# Altium schematic symbol library ARCOM_Voltage_reg.SchLib: 39 symbols
Pins are listed as number, name and electrical type; pins without a type are passive.

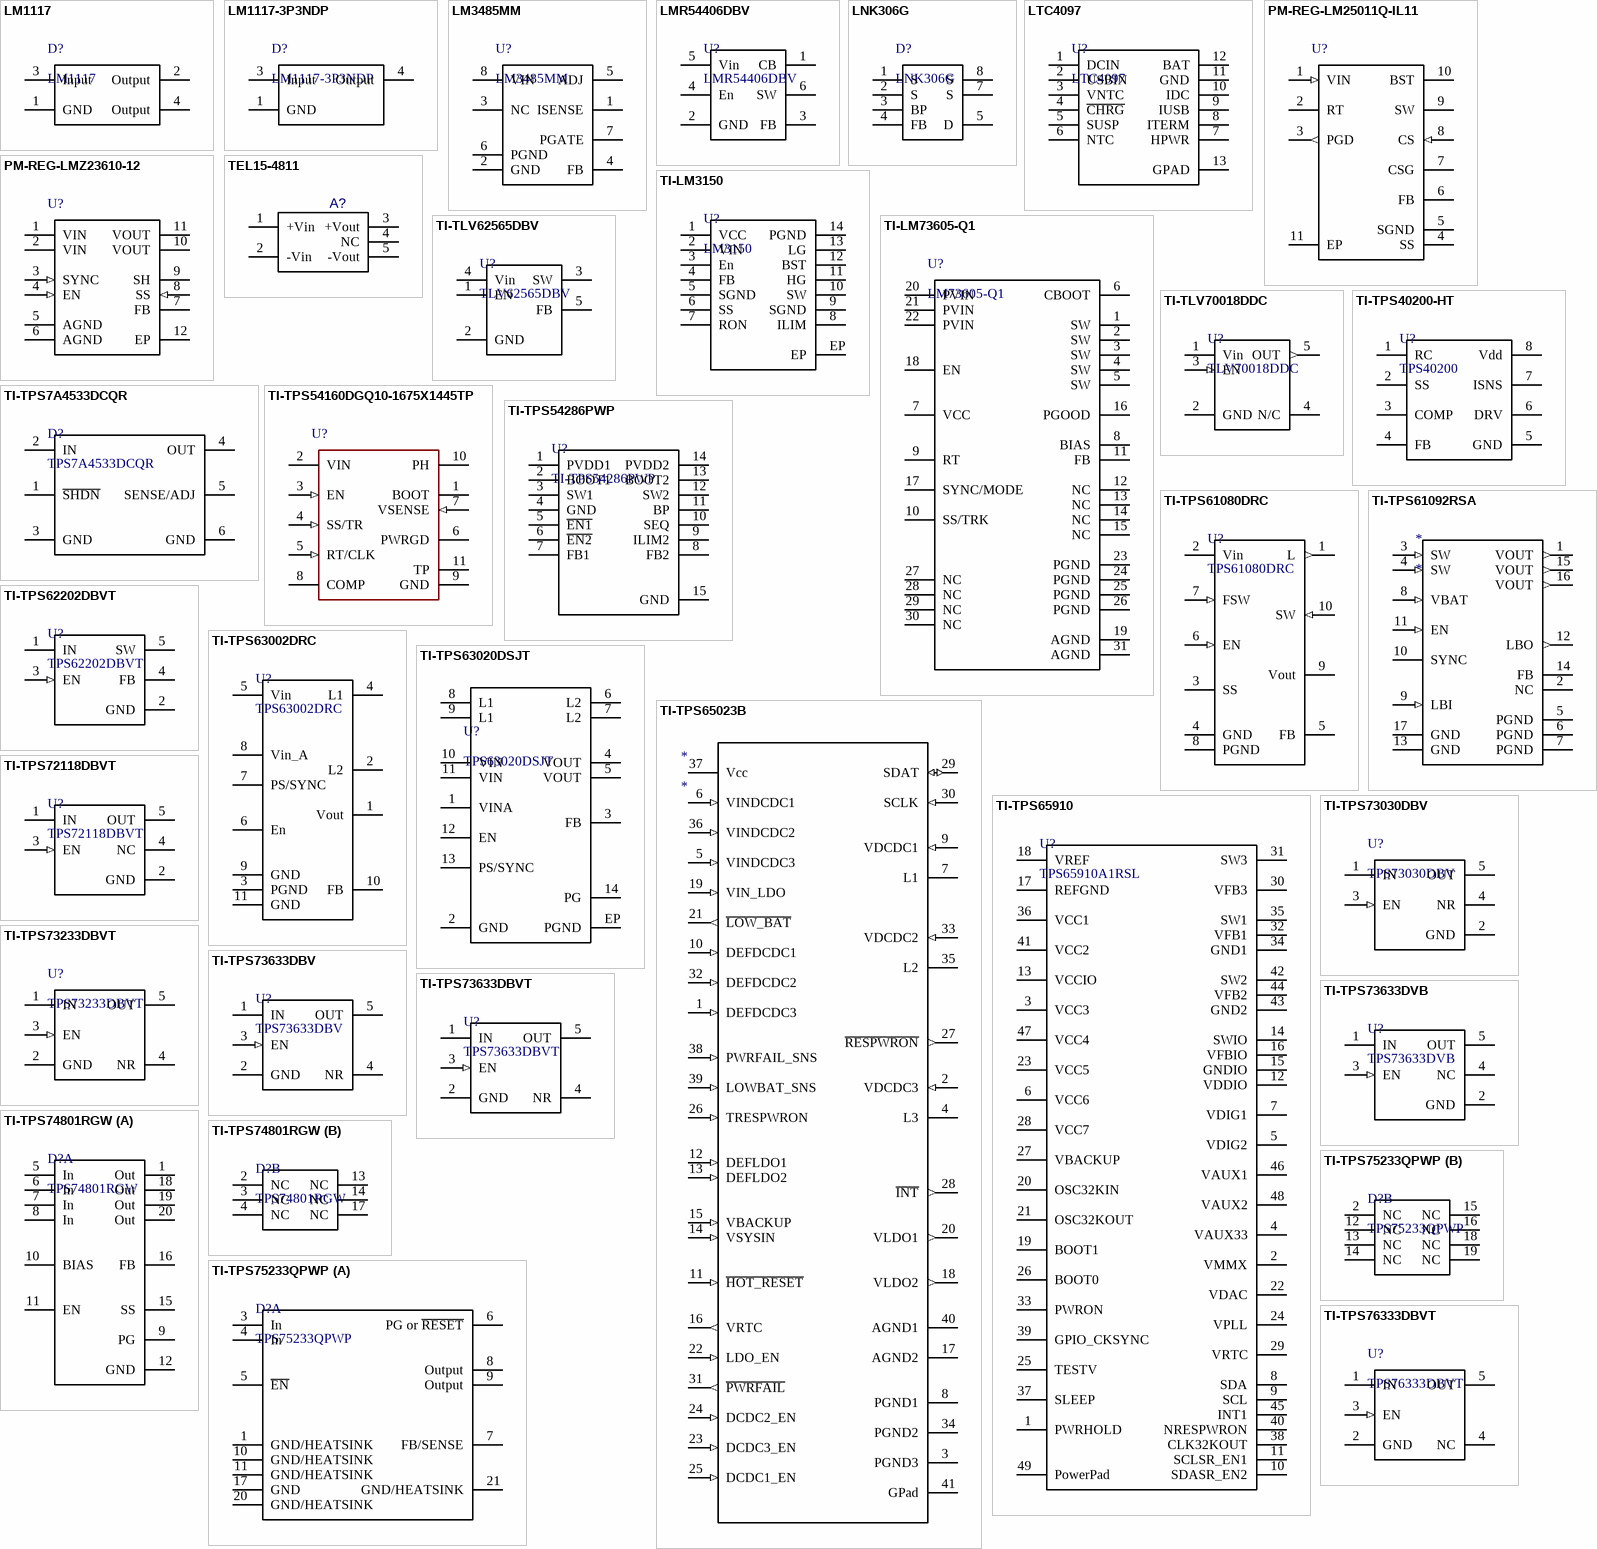
[diagram p0: symbols LM1117 to TI-TPS76333DBVT]

## LM1117
designator D?
800-mA Low-Dropout Linear Regulator; Manufacturer: Texas Instruments; Manufacturer P/N: LM1117-3P3NDP; ComponentLink1Description: Manufacturer; ComponentLink1URL: *; ComponentLink2Description: Datasheet; ComponentLink2URL: *; Family: Chip; Part: LM1117-3P3NDP
footprint SOT-223-2 (SOT-223/SC-73; 4 Leads; Body 6.7 x 7.3 mm, inc. leads (LxW max))
pins: 1 GND, 2 Output, 3 Input, 4 Output

## LM1117-3P3NDP
designator D?
800-mA Low-Dropout Linear Regulator; Manufacturer: Texas Instruments; ComponentLink1Description: Manufacturer; ComponentLink1URL: *; ComponentLink2Description: Datasheet; ComponentLink2URL: *; Family: Chip; Manufacturer P/N: LM1117-3P3NDP; Part: LM1117-3P3NDP
footprint TO-252-3
pins: 1 GND, 3 Input, 4 Output

## LM3485MM
designator U?
Hysteretic PFET Buck Controller; Manufacturer: Texas Instruments; ComponentLink1Description: Manufacturer; ComponentLink1URL: *; ComponentLink2Description: Datasheet; ComponentLink2URL: *; Manufacturer P/N: LM3485MM; Family: Chip; Part: LM3485MM
footprint VSSOP8
pins: 1 ISENSE, 2 GND, 3 NC, 4 FB, 5 ADJ, 6 PGND, 7 PGATE, 8 VIN

## LMR54406DBV
designator U?
LMR544xx SIMPLE SWITCHER® 4-V to 45-V, 0.6-A/1-A Buck Converter in a SOT-23 Package; Manufacturer: Texas Instruments; Manufacturer p/n: LMR54406DBV; Family: Chip; Part: LMR54406DBV
footprint SOT-23(PIC)
pins: 1 CB, 2 GND, 3 FB, 4 En, 5 Vin, 6 SW

## LNK306G
designator D?
Energy Efficient Off-Line Switcher IC
footprint SMD-8B
pins: 1 S, 2 S, 3 BP, 4 FB, 5 D, 7 S, 8 S

## LTC4097
designator U?
USB/Wall Adapter Standalone Li-Ion/Polimer Battery Charger; ComponentLink1Description: *; ComponentLink1URL: *; ComponentLink2Description: *; ComponentLink2URL: *; Family: *; Manufacturer: *; Manufacturer P/N: *; Part: *
pins: 1 DCIN, 2 USBIN, 3 VNTC, 4 ~{CHRG}, 5 SUSP, 6 NTC, 7 HPWR, 8 ITERM, 9 IUSB, 10 IDC, 11 GND, 12 BAT, 13 GPAD

## PM-REG-LM25011Q-IL11
designator U?
footprint DGQ0010A_N (TSOP, 10-Leads, Body 3.1x3.1mm, Pitch 0.5mm, Thermal Pad 1.9x1.73mm, IPC Medium Density)
pins: 1 VIN (in), 2 RT, 3 PGD (out), 4 SS, 5 SGND (power), 6 FB, 7 CSG (oe), 8 CS (in), 9 SW, 10 BST, 11 EP (power)

## PM-REG-LMZ23610-12
designator U?
footprint NDY0011A_M (DPAK, 11-Leads, Body 15.25x15.25mm, Pitch 1.27mm, IPC Low Density)
pins: 1 VIN (power), 2 VIN (power), 3 SYNC (in), 4 EN (in), 5 AGND (power), 6 AGND (power), 7 FB, 8 SS (in), 9 SH, 10 VOUT (power), 11 VOUT (power), 12 EP (power)

## TEL15-4811
designator A?  (value not drawn)
15W DC-DC Converter; Manufacturer: TRACO Power; Manufacturer P/N: TEL15-4811; ComponentLink1Description: Manufacturer; ComponentLink1URL: https://www.tracopower.com/home/; ComponentLink2Description: Datasheet; ComponentLink2URL: https://www2.mouser.com/datasheet/2/687/tel15-519363.pdf; Family: Chip
footprint TEL15-4811
pins: 1 +Vin, 2 -Vin, 3 +Vout, 4 NC, 5 -Vout

## TI-LM3150
designator U?, comment LM3150
LM3150 Wide-VIN Synchronous Buck Controller; ComponentLink1Description: *; ComponentLink1URL: *; ComponentLink2Description: *; ComponentLink2URL: *; family: *; Manufacturer: *; Manufacturer P/N: *; Part: *
footprint HTSSOP(14)
pins: 1 VCC, 2 VIN, 3 En, 4 FB, 5 SGND, 6 SS, 7 RON, 8 ILIM, 9 SGND, 10 SW, 11 HG, 12 BST, 13 LG, 14 PGND, EP

## TI-LM73605-Q1
designator U?, comment LM73605-Q1
3.5-V to 36-V, 5-A Synchronous Step-Down Voltage Converter; Manufacturer: Texas Instruments; ComponentLink1Description: *; ComponentLink1URL: *; ComponentLink2Description: *; ComponentLink2URL: *; Family: Chip; Manufacturer P/N: LM73605-Q1; Part: LM73605-Q1
footprint WQFN-30
pins: 1 SW, 2 SW, 3 SW, 4 SW, 5 SW, 6 CBOOT, 7 VCC, 8 BIAS, 9 RT, 10 SS/TRK, 11 FB, 12 NC, 13 NC, 14 NC, 15 NC, 16 PGOOD, 17 SYNC/MODE, 18 EN, 19 AGND, 20 PVIN, 21 PVIN, 22 PVIN, 23 PGND, 24 PGND, 25 PGND, 26 PGND, 27 NC, 28 NC, 29 NC, 30 NC, 31 AGND

## TI-TLV62565DBV
designator U?, comment TLV62565DBV
TLV6256x 1.5-A High Efficiency Step-Down Converters in SOT-23 5-Pin Package; Manufacturer: Texas Instruments; ComponentLink1Description: *; ComponentLink1URL: *; ComponentLink2Description: *; ComponentLink2URL: *; Family: Chip; Manufacturer P/N: TLV62565DBV; Part: TLV62565DBV
footprint SOT23-6
pins: 1 EN, 2 GND, 3 SW, 4 Vin, 5 FB

## TI-TLV70018DDC
designator U?, comment TLV70018DDC
TLV700 200-mA, Low-IQ, Low-Dropout Regulator for Portable Devices; Manufacturer: Texas Instruments; ComponentLink1Description: *; ComponentLink1URL: *; ComponentLink2Description: *; ComponentLink2URL: *; Family: Chip; Manufacturer P/N: TLV700; Part: TLV70018DDC
footprint SOT23-6
pins: 1 Vin, 2 GND, 3 EN (in), 4 N/C, 5 OUT (out)

## TI-TPS7A4533DCQR
designator D?, comment TPS7A4533DCQR
Low-Noise Fast-Transient-Response 1.5-A Low-Dropout Voltage Regulator; ComponentLink1Description: *; ComponentLink1URL: *; ComponentLink2Description: Datasheet; ComponentLink2URL: http://www.ti.com/lit/ds/symlink/tps7a4533.pdf; Family: *; Manufacturer: *; Manufacturer P/N: *; Part: *
footprint TI-DCQ6_L (SOT223, 6-Leads, Body 6.5x3.5mm, Pitch 1.27mm, IPC High Density)
footprint TI-DCQ6_M (SOT223, 6-Leads, Body 6.5x3.5mm, Pitch 1.27mm, IPC Low Density)
footprint TI-DCQ6_N (SOT223, 6-Leads, Body 6.5x3.5mm, Pitch 1.27mm, IPC Medium Density)
pins: 1 ~{SHDN}, 2 IN, 3 GND, 4 OUT, 5 SENSE/ADJ, 6 GND

## TI-TPS40200-HT
designator U?, comment TPS40200
Wide-input-range nonsynchronous voltage-mode controller; ComponentLink1Description: *; ComponentLink1URL: *; ComponentLink2Description: *; ComponentLink2URL: *; Manufacturer: *; Manufacturer P/N: *; Family: *; Part: *
footprint SOIC_8_1.27_L (SOIC, 8-Leads, Body 4.89x3.9mm, Pitch 1.27mm, IPC High Density)
footprint SOIC_8_1.27_M (SOIC, 8-Leads, Body 4.89x3.9mm, Pitch 1.27mm, IPC Low Density)
footprint SOIC_8_1.27_N (SOIC, 8-Leads, Body 4.89x3.9mm, Pitch 1.27mm, IPC Medium Density)
pins: 1 RC, 2 SS, 3 COMP, 4 FB, 5 GND, 6 DRV, 7 ISNS, 8 Vdd

## TI-TPS54160DGQ10-1675X1445TP
designator U?
ComponentLink1Description: Manufacturer; ComponentLink1URL: *; ComponentLink2URL: *; Manufacturer P/N: *; Family: *; Part: *
footprint DGQ0010D_M (TSOP, 10-Leads, Body 3.1x3.1mm, Pitch 0.5mm, Thermal Pad 1.88x1.57mm, IPC Low Density)
pins: 1 BOOT "A bootstrap capacitor is required between BOOT and PH. If the voltage on this capacitor is below the minimum required by the output device, the output is forced to switch off until the capacitor is refreshed.", 2 VIN (power) "Input supply voltage, 3.5 V to 60 V.", 3 EN (in) "Enable pin, internal pull-up current source. Pull below 1.2V to disable. Float to enable. Adjust the input undervoltage lockout with two resistors.", 4 SS/TR (in) "Slow-start and Tracking. An external capacitor connected to this pin sets the output rise time. Since the voltage on this pin overrides the internal reference, it can be used for tracking and sequencing.", 5 RT/CLK (in) "Resistor Timing and External Clock. An internal amplifier holds this pin at a fixed voltage when using an external resistor to ground to set the switching frequency. If the pin is pulled above the PLL upper threshold, a mode (See Datasheet)", 6 PWRGD (oc) "An open drain output, asserts low if output voltage is low due to thermal shutdown, dropout, over-voltage or EN shut down.", 7 VSENSE (in) "Inverting node of the transconductance ( gm) error amplifier.", 8 COMP "Error amplifier output, and input to the output switch current comparator. Connect frequency compensation components to this pin.", 9 GND (power) "Ground pin. Power ground return for switching circuit. Connect sensitive SS and VFB returns to GND at a single point.", 10 PH (power) "The source of the internal high-side power MOSFET.", 11 TP (power) "GND pin must be electrically connected to the exposed pad on the printed circuit board for proper operation."

## TI-TPS54286PWP
designator U?
2-A DUAL NON-SYNCHRONOUS CONVERTER WITH INTEGRATED HIGH-SIDE MOSFET; Family: Chip
footprint R-PDSO-G14
pins: 1 PVDD1, 2 BOOT1, 3 SW1, 4 GND, 5 ~{EN1}, 6 ~{EN2}, 7 FB1, 8 FB2, 9 ILIM2, 10 SEQ, 11 BP, 12 SW2, 13 BOOT2, 14 PVDD2, 15 GND

## TI-TPS61080DRC
designator U?, comment TPS61080DRC
High-Voltage DC-DC Boost Converter with 0.5-A, 1.3-A Integrated Switch; Manufacturer: Texas Instruments; ComponentLink1Description: Manufacturer; ComponentLink1URL: http://www.ti.com; ComponentLink2Description: Datasheet; ComponentLink2URL: https://www.ti.com/lit/ds/symlink/tps61080.pdf; Manufacturer P/N: TPS61080DRC; Part: TPS61080DRC; Family: Chip
footprint VSON-10pin
pins: 1 L (out) "No connected", 2 Vin (power) "Input supply voltage", 3 SS "Input supply voltage", 4 GND "Input supply voltage", 5 FB (power) "Ground", 6 EN (in) "Input supply voltage", 7 FSW (in) "Input supply voltage", 8 PGND "Input supply voltage", 9 Vout (power) "Ground", 10 SW (in) "No connected"

## TI-TPS61092RSA
designator *
TPS65910xIntegratedPower-ManagementUnitTopSpecification; Manufacturer: Texas Instruments; Manufacturer p/n: TPS61092RSA; Part: TPS61092RSA; Family: chip
footprint PVQFN-N16
pins: 1 VOUT (out) "Input supply voltage", 2 NC "Input supply voltage", 3 SW (in) "Input supply voltage", 4 SW (in) "Input supply voltage", 5 PGND "Input supply voltage", 6 PGND "Input supply voltage", 7 PGND "Input supply voltage", 8 VBAT (in) "Input supply voltage", 9 LBI (in) "Input supply voltage", 10 SYNC "Input supply voltage", 11 EN (in) "Input supply voltage", 12 LBO (out) "Input supply voltage", 13 GND "Input supply voltage", 14 FB "Input supply voltage", 15 VOUT (out) "Input supply voltage", 16 VOUT (out) "Input supply voltage", 17 GND "Input supply voltage"

## TI-TPS62202DBVT
designator U?, comment TPS62202DBVT
High-Efficiency Step-Down DC-DC converter; Manufacturer: Texas Instruments; ComponentLink1Description: Manufacturer; ComponentLink1URL: http://www.ti.com; ComponentLink2Description: Datasheet; Manufacturer P/N: TPS62202DBVT; Part: TPS62202DBVT; Family: Chip
footprint SOT23_MF05A_L (SOT23, 5-Leads, Body 2.9x1.6mm, Pitch 0.95mm, Lead Span 2.8mm, IPC High Density)
footprint SOT23_MF05A_M (SOT23, 5-Leads, Body 2.9x1.6mm, Pitch 0.95mm, Lead Span 2.8mm, IPC Low Density)
footprint SOT23_MF05A_N (SOT23, 5-Leads, Body 2.9x1.6mm, Pitch 0.95mm, Lead Span 2.8mm, IPC Medium Density)
pins: 1 IN (power) "Input supply voltage", 2 GND (power) "Ground", 3 EN (in) "Enable input", 4 FB "No connected", 5 SW (power) "Regulated output voltage"

## TI-TPS63002DRC
designator U?, comment TPS63002DRC
TPS6300x High-Efficient Single Inductor Buck-Boost Converter With 1.8-A Switches; Manufacturer: Texas Instruments; ComponentLink1Description: Manufacturer; ComponentLink1URL: http://www.ti.com; ComponentLink2Description: Datasheet; Manufacturer P/N: TPS63002DRC; Part: TPS63002DRC; Family: Chip
footprint VSON-10pin - TPS63002
pins: 1 Vout (power) "Input supply voltage", 2 L2 (power) "Input supply voltage", 3 PGND "Input supply voltage", 4 L1 (power) "Input supply voltage", 5 Vin (power) "Input supply voltage", 6 En (power) "Input supply voltage", 7 PS/SYNC (power) "Input supply voltage", 8 Vin_A (power) "Input supply voltage", 9 GND "Input supply voltage", 10 FB (power) "Input supply voltage", 11 GND "Input supply voltage"

## TI-TPS63020DSJT
designator U?, comment TPS63020DSJT
Ultralow quiescent current 250ma low dropout voltage regulator; Manufacturer: Texas Instruments; ComponentLink1Description: *; ComponentLink1URL: *; ComponentLink2Description: *; ComponentLink2URL: *; Family: Chips; Manufacturer p/n: TPS63020DSJT; Part: TPS63020DSJT
footprint R-PVSON-N14
pins: 1 VINA (power) "Regulator ground", 2 GND (power) "Regulator ground", 3 FB (hiz) "PG output", 4 VOUT (power) "Regulated output voltage", 5 VOUT (power) "Regulated output voltage", 6 L2 (hiz) "PG output", 7 L2 (hiz) "PG output", 8 L1 (hiz) "PG output", 9 L1 (hiz) "PG output", 10 VIN (power) "Input voltage", 11 VIN (power) "Input voltage", 12 EN (power) "Regulator ground", 13 PS/SYNC (power) "Regulator ground", 14 PG (power) "Regulator ground", EP PGND "No connect"

## TI-TPS65023B
designator *
TPS65023B; Manufacturer: Texas Instruments; Manufacturer p/n: TPS61092RSA; Part: TPS61092RSA; Family: chip
footprint S-PWQFN-N40
pins: 1 DEFDCDC3 (in), 2 VDCDC3 (in), 3 PGND3 (power), 4 L3, 5 VINDCDC3 (in), 6 VINDCDC1 (in), 7 L1, 8 PGND1 (power), 9 VDCDC1 (in), 10 DEFDCDC1 (in), 11 ~{HOT_RESET} (in), 12 DEFLDO1 (in), 13 DEFLDO2 (in), 14 VSYSIN (in), 15 VBACKUP (in), 16 VRTC (out), 17 AGND2 (power), 18 VLDO2 (out), 19 VIN_LDO (in), 20 VLDO1 (out), 21 ~{LOW_BAT} (out), 22 LDO_EN (in), 23 DCDC3_EN (in), 24 DCDC2_EN (in), 25 DCDC1_EN (in), 26 TRESPWRON (in), 27 ~{RESPWRON} (out), 28 ~{INT} (out), 29 SDAT (io), 30 SCLK (in), 31 ~{PWRFAIL} (out), 32 DEFDCDC2 (in), 33 VDCDC2 (in), 34 PGND2 (power), 35 L2, 36 VINDCDC2 (in), 37 Vcc (power), 38 PWRFAIL_SNS (in), 39 LOWBAT_SNS (in), 40 AGND1 (power), 41 GPad (power)

## TI-TPS65910
designator U?, comment TPS65910A1RSL
Integrated Power-Managerment Unit, 48-pin QFN, -40 to 85 degC, Green (RoHS & no Sb/Br); Manufacturer: Texas Instruments; ComponentLink1Description: Manufacturer; ComponentLink1URL: http://www.ti.com; ComponentLink2Description: Datasheet; ComponentLink2URL: https://www.ti.com/lit/gpn/tps65910; Manufacturer P/N: TPS65910A1RSL; Part: TPS65910A1RSL; Family: Chip
footprint IC_TPS65910A31A1RSLR
pins: 1 PWRHOLD (power) "Input supply voltage", 2 VMMX "No connected", 3 VCC3 (power) "Input supply voltage", 4 VAUX33 "No connected", 5 VDIG2 "No connected", 6 VCC6 (power) "Input supply voltage", 7 VDIG1 "No connected", 8 SDA "No connected", 9 SCL "No connected", 10 SDASR_EN2 "No connected", 11 SCLSR_EN1 "No connected", 12 VDDIO "No connected", 13 VCCIO (power) "Input supply voltage", 14 SWIO "No connected", 15 GNDIO "No connected", 16 VFBIO "No connected", 17 REFGND (power) "Input supply voltage", 18 VREF (power) "Input supply voltage", 19 BOOT1 (power) "Input supply voltage", 20 OSC32KIN (power) "Input supply voltage", 21 OSC32KOUT (power) "Input supply voltage", 22 VDAC "No connected", 23 VCC5 (power) "Input supply voltage", 24 VPLL "No connected", 25 TESTV (power) "Input supply voltage", 26 BOOT0 (power) "Input supply voltage", 27 VBACKUP (power) "Input supply voltage", 28 VCC7 (power) "Input supply voltage", 29 VRTC "No connected", 30 VFB3 "No connected", 31 SW3 (power) "Regulated output voltage", 32 VFB1 "No connected", 33 PWRON (power) "Input supply voltage", 34 GND1 "No connected", 35 SW1 "No connected", 36 VCC1 (power) "Input supply voltage", 37 SLEEP (power) "Input supply voltage", 38 CLK32KOUT "No connected", 39 GPIO_CKSYNC (power) "Input supply voltage", 40 NRESPWRON "No connected", 41 VCC2 (power) "Input supply voltage", 42 SW2 "No connected", 43 GND2 "No connected", 44 VFB2 "No connected", 45 INT1 "No connected", 46 VAUX1 "No connected", 47 VCC4 (power) "Input supply voltage", 48 VAUX2 "No connected", 49 PowerPad (power) "Input supply voltage"

## TI-TPS72118DBVT
designator U?, comment TPS72118DBVT
Single Output Low Input Voltage Requirement LDO, 150 mA, Fixed 1.8 V Output, 1.8 to 5.5 V Input, with Low IQ, 5-pin SOT-23 (DBV), -40 to 125 degC; Manufacturer: Texas Instruments; ComponentLink1Description: Manufacturer; ComponentLink1URL: http://www.ti.com; ComponentLink2Description: Datasheet; ComponentLink2URL: http://www.ti.com/lit/ds/symlink/tps72118.pdf; Manufacturer P/N: TPS72118DBVT; Part: TPS72118DBVT; Family: Chip
footprint SOT23_MF05A_L (SOT23, 5-Leads, Body 2.9x1.6mm, Pitch 0.95mm, Lead Span 2.8mm, IPC High Density)
footprint SOT23_MF05A_M (SOT23, 5-Leads, Body 2.9x1.6mm, Pitch 0.95mm, Lead Span 2.8mm, IPC Low Density)
footprint SOT23_MF05A_N (SOT23, 5-Leads, Body 2.9x1.6mm, Pitch 0.95mm, Lead Span 2.8mm, IPC Medium Density)
pins: 1 IN (power) "Input supply voltage", 2 GND (power) "Ground", 3 EN (in) "Enable input", 4 NC "No connected", 5 OUT (power) "Regulated output voltage"

## TI-TPS73030DBV
designator U?, comment TPS73030DBV
Single Output High PSRR LDO, 200 mA, Fixed 3 V Output, 2.7 to 5.5 V Input, 5-pin SOT-23 (DBV), -40 to 85 degC; Manufacturer: Texas Instruments; Manufacturer P/N: TPS73030DBVT; ComponentLink1Description: Manufacturer; ComponentLink1URL: http://www.ti.com; ComponentLink2Description: Datasheet; ComponentLink2URL: http://www.ti.com/lit/ds/symlink/tps730.pdf; Part: TPS73030DBV; Family: Chip
footprint SOT23_MF05A_L (SOT23, 5-Leads, Body 2.9x1.6mm, Pitch 0.95mm, Lead Span 2.8mm, IPC High Density)
footprint SOT23_MF05A_M (SOT23, 5-Leads, Body 2.9x1.6mm, Pitch 0.95mm, Lead Span 2.8mm, IPC Low Density)
footprint SOT23_MF05A_N (SOT23, 5-Leads, Body 2.9x1.6mm, Pitch 0.95mm, Lead Span 2.8mm, IPC Medium Density)
pins: 1 IN (power) "Input supply.", 2 GND (power) "Ground.", 3 EN (in) "Driving the enable pin (EN) high turns on the regulator .Driving this pin low puts the regulator into shutdown mode.EN can be connected to IN if not used.", 4 NR "Fixed voltage versions only; connecting an external capacitor to this pin bypasses noise generated by the internal bandgap. This capacitor allows output noise to be reduced to very low levels.", 5 OUT (power) "Output for the regulator. A small capacitor (total typical capacitance >= 2.0uF ceramic) is needed from this pin to ground to assure stability."

## TI-TPS73233DBVT
designator U?, comment TPS73233DBVT
Cap-Free, NMOS, 250mA Low Dropout Regulator  with Reverse Current Protection, Fixed 3.3V output, 5-pin SOT-23(DBV); Manufacturer: Texas Instruments; ComponentLink1Description: Manufacturer; ComponentLink1URL: http://www.ti.com; ComponentLink2Description: Datasheet; ComponentLink2URL: http://www.ti.com/lit/ds/symlink/tps732.pdf; Part: TPS73233DBVT; Manufacturer P/N: TPS73233DBVT; Family: Chip
footprint SOT23_MF05A_L (SOT23, 5-Leads, Body 2.9x1.6mm, Pitch 0.95mm, Lead Span 2.8mm, IPC High Density)
footprint SOT23_MF05A_M (SOT23, 5-Leads, Body 2.9x1.6mm, Pitch 0.95mm, Lead Span 2.8mm, IPC Low Density)
footprint SOT23_MF05A_N (SOT23, 5-Leads, Body 2.9x1.6mm, Pitch 0.95mm, Lead Span 2.8mm, IPC Medium Density)
pins: 1 IN (power) "Input supply voltage", 2 GND (power) "Ground", 3 EN (in) "Enable input", 4 NR "No connected", 5 OUT (power) "Regulated output voltage"

## TI-TPS73633DBV
designator U?, comment TPS73633DBV
Single Output Low Noise LDO, 400 mA, Fixed 3.3 V Output, 1.7 to 5.5 V Input, with Reverse Current Protection, 5-pin SOT-23 (DBV), -40 to 85 degC, Green (RoHS & no Sb/Br); Manufacturer: Texas Instruments; Manufacturer P/N: TPS73633DBVT; ComponentLink1Description: Manufacturer; ComponentLink1URL: http://www.ti.com; ComponentLink2Description: Datasheet; ComponentLink2URL: http://www.ti.com/lit/ds/symlink/tps736.pdf; Part: TPS73633DBV; Family: Chip
footprint SOT23_MF05A_L (SOT23, 5-Leads, Body 2.9x1.6mm, Pitch 0.95mm, Lead Span 2.8mm, IPC High Density)
footprint SOT23_MF05A_M (SOT23, 5-Leads, Body 2.9x1.6mm, Pitch 0.95mm, Lead Span 2.8mm, IPC Low Density)
footprint SOT23_MF05A_N (SOT23, 5-Leads, Body 2.9x1.6mm, Pitch 0.95mm, Lead Span 2.8mm, IPC Medium Density)
pins: 1 IN (power) "Input supply voltage", 2 GND (power) "Ground", 3 EN (in) "Enable input", 4 NR "No connected", 5 OUT (power) "Regulated output voltage"

## TI-TPS73633DBVT
designator U?, comment TPS73633DBVT
Single Output Low Noise LDO, 400 mA, Fixed 3.3 V Output, 1.7 to 5.5 V Input, with Reverse Current Protection, 5-pin SOT-23 (DBV), -40 to 85 degC, Green (RoHS & no Sb/Br); Manufacturer: Texas Instruments; ComponentLink1Description: Manufacturer; ComponentLink1URL: http://www.ti.com; ComponentLink2Description: Datasheet; ComponentLink2URL: http://www.ti.com/lit/ds/symlink/tps736.pdf; Manufacturer P/N: TPS73633DBVT; Part: TPS73633DBVT; Family: Chip
footprint SOT23_MF05A_L (SOT23, 5-Leads, Body 2.9x1.6mm, Pitch 0.95mm, Lead Span 2.8mm, IPC High Density)
footprint SOT23_MF05A_M (SOT23, 5-Leads, Body 2.9x1.6mm, Pitch 0.95mm, Lead Span 2.8mm, IPC Low Density)
footprint SOT23_MF05A_N (SOT23, 5-Leads, Body 2.9x1.6mm, Pitch 0.95mm, Lead Span 2.8mm, IPC Medium Density)
pins: 1 IN (power) "Input supply voltage", 2 GND (power) "Ground", 3 EN (in) "Enable input", 4 NR "No connected", 5 OUT (power) "Regulated output voltage"

## TI-TPS73633DVB
designator U?, comment TPS73633DVB
Single Output Low Noise LDO, 400 mA, Fixed 3.3 V Output, 1.7 to 5.5 V Input, with Reverse Current Protection, 5-pin SOT-23 (DBV), -40 to 85 degC, Green (RoHS & no Sb/Br); Manufacturer: Texas Instruments; Manufacturer P/N: TPS73633DVBT; ComponentLink1Description: Manufacturer; ComponentLink1URL: http://www.ti.com; ComponentLink2Description: Datasheet; ComponentLink2URL: http://www.ti.com/lit/ds/symlink/tps736.pdf; Part: TPS73633DVB; Family: Chip
footprint SOT23_MF05A_L (SOT23, 5-Leads, Body 2.9x1.6mm, Pitch 0.95mm, Lead Span 2.8mm, IPC High Density)
footprint SOT23_MF05A_M (SOT23, 5-Leads, Body 2.9x1.6mm, Pitch 0.95mm, Lead Span 2.8mm, IPC Low Density)
footprint SOT23_MF05A_N (SOT23, 5-Leads, Body 2.9x1.6mm, Pitch 0.95mm, Lead Span 2.8mm, IPC Medium Density)
pins: 1 IN (power) "Input supply voltage", 2 GND (power) "Ground", 3 EN (in) "Enable input", 4 NC "No connected", 5 OUT (power) "Regulated output voltage"

## TI-TPS74801RGW
designator D?, comment TPS74801RGW
1.5-A Low-Dropout Linear Regulator With Programmable Soft-Start; ComponentLink1Description: *; ComponentLink1URL: *; ComponentLink2Description: Datasheet; ComponentLink2URL: http://www.ti.com/lit/ds/symlink/tps74801.pdf; Family: *; Manufacturer: *; Manufacturer P/N: *; Part: *
footprint RGW0020A_V (QFN, 20-Leads, Body 5x5mm, Pitch 0.65mm, Thermal Pad 3.15x3.15mm, TI Recommended)
part A pins: 1 Out, 5 In, 6 In, 7 In, 8 In, 9 PG, 10 BIAS, 11 EN, 12 GND, 15 SS, 16 FB, 18 Out, 19 Out, 20 Out
part B pins: 2 NC, 3 NC, 4 NC, 13 NC, 14 NC, 17 NC

## TI-TPS75233QPWP
designator D?, comment TPS75233QPWP
2-A Low-Dropout Voltage Regulators with Power Good; Manufacturer: Texas Instruments; ComponentLink1Description: Manufacturer; ComponentLink1URL: http://www.ti.com; ComponentLink2Description: Datasheet; ComponentLink2URL: http://www.ti.com/lit/ds/symlink/tps752.pdf; Family: Chip; Manufacturer P/N: TPS75233QPWP; Part: TPS75233QPWP
footprint PWP0020C_L (SOP, 20-Leads, Body 6.6x4.5mm, Pitch 0.65mm, Thermal Pad 3.38x2.4mm, IPC High Density)
footprint PWP0020C_M (SOP, 20-Leads, Body 6.6x4.5mm, Pitch 0.65mm, Thermal Pad 3.38x2.4mm, IPC Low Density)
footprint PWP0020C_N (SOP, 20-Leads, Body 6.6x4.5mm, Pitch 0.65mm, Thermal Pad 3.38x2.4mm, IPC Medium Density)
part A pins: 1 GND/HEATSINK, 3 In, 4 In, 5 ~{EN}, 6 PG or ~{RESET}, 7 FB/SENSE, 8 Output, 9 Output, 10 GND/HEATSINK, 11 GND/HEATSINK, 17 GND, 20 GND/HEATSINK, 21 GND/HEATSINK
part B pins: 2 NC, 12 NC, 13 NC, 14 NC, 15 NC, 16 NC, 18 NC, 19 NC

## TI-TPS76333DBVT
designator U?, comment TPS76333DBVT
Single Output LDO, 150mA, Fixed 3.3V output, 2.7 to 10V Input, with low IQ, 5-pin SOT-23(DBV), -40 to 125 degC; Manufacturer: Texas Instruments; ComponentLink1Description: Manufacturer; ComponentLink1URL: http://www.ti.com; ComponentLink2Description: Datasheet; ComponentLink2URL: http://www.mouser.com/ds/2/405/tps763-706592.pdf; Part: TPS76333DBVT; Manufacturer P/N: TPS76333DBVT; Family: Chip
footprint SOT23_MF05A_L (SOT23, 5-Leads, Body 2.9x1.6mm, Pitch 0.95mm, Lead Span 2.8mm, IPC High Density)
footprint SOT23_MF05A_M (SOT23, 5-Leads, Body 2.9x1.6mm, Pitch 0.95mm, Lead Span 2.8mm, IPC Low Density)
footprint SOT23_MF05A_N (SOT23, 5-Leads, Body 2.9x1.6mm, Pitch 0.95mm, Lead Span 2.8mm, IPC Medium Density)
pins: 1 IN (power) "Input supply voltage", 2 GND (power) "Ground", 3 EN (in) "Enable input", 4 NC "No connected", 5 OUT (power) "Regulated output voltage"

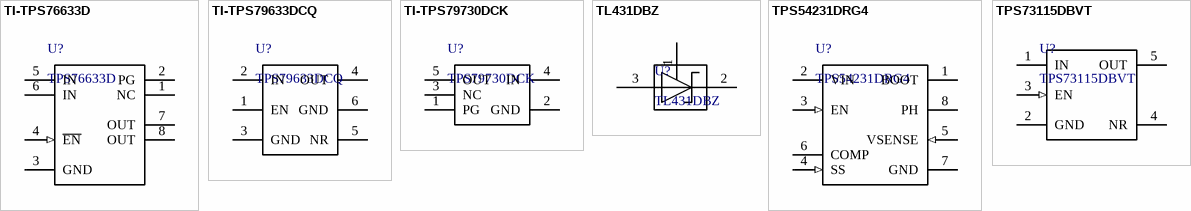
[diagram p1: symbols TI-TPS76633D to TPS73115DBVT]

## TI-TPS76633D
designator U?, comment TPS76633D
Ultralow quiescent current 250ma low dropout voltage regulator; Manufacturer: Texas Instruments; ComponentLink1Description: *; ComponentLink1URL: *; ComponentLink2Description: *; ComponentLink2URL: *; Family: Chips; Manufacturer p/n: TPS76633D; Part: TPS76633D
footprint D0008A_M (SOIC, 8-Leads, Body 5x4mm, Pitch 1.27mm, IPC Low Density)
pins: 1 NC "No connect", 2 PG (hiz) "PG output", 3 GND (power) "Regulator ground", 4 ~{EN} (in) "Enable input", 5 IN (power) "Input voltage", 6 IN (power) "Input voltage", 7 OUT (power) "Regulated output voltage", 8 OUT (power) "Regulated output voltage"

## TI-TPS79633DCQ
designator U?, comment TPS79633DCQ
Ultralow-Noise,HighPSRR,Fast,RF,1-ALow-DropoutLinearRegulators; Manufacturer: Texas Instruments; ComponentLink1Description: Manufacturer; ComponentLink1URL: http://www.ti.com; ComponentLink2Description: Datasheet; ComponentLink2URL: http://www.mouser.com/ds/2/405/tps796-612559.pdf; Manufacturer P/N: TPS79633DCQ; Part: TPS79633DCQ; Family: Chip
footprint TI-DCQ6_L (SOT223, 6-Leads, Body 6.5x3.5mm, Pitch 1.27mm, IPC High Density)
footprint TI-DCQ6_M (SOT223, 6-Leads, Body 6.5x3.5mm, Pitch 1.27mm, IPC Low Density)
footprint TI-DCQ6_N (SOT223, 6-Leads, Body 6.5x3.5mm, Pitch 1.27mm, IPC Medium Density)
pins: 1 EN (power) "The PG terminal for the fixed voltage option devices is an open drain, active-high output that indicates the status of VO (output of the LDO). When VO exceeds approximately 90% of the regulated voltage, PG goes to a high (See Datasheet)", 2 IN (power) "The IN terminal is the power supply input to the device.", 3 GND "No connection", 4 OUT (power) "The OUT terminal provides the regulated output voltage of the device.", 5 NR (power) "Ground", 6 GND "No connection"

## TI-TPS79730DCK
designator U?, comment TPS79730DCK
Single Output LDO with PG, 50mA, Ultralow IQ; Manufacturer: Texas Instruments; Manufacturer P/N: TPS79730DCKT; ComponentLink1Description: Manufacturer; ComponentLink1URL: http://www.ti.com; ComponentLink2Description: Datasheet; ComponentLink2URL: http://www.mouser.com/ds/2/405/tps797-558352.pdf; Part: TPS79730DCK; Family: Chip
footprint ONSC-SC70-5-419A-02_K_L (SOT23, 5-Leads, Body 2.2x1.35mm, Pitch 0.65mm, IPC High Density)
footprint ONSC-SC70-5-419A-02_K_M (SOT23, 5-Leads, Body 2.2x1.35mm, Pitch 0.65mm, IPC Low Density)
footprint ONSC-SC70-5-419A-02_K_N (SOT23, 5-Leads, Body 2.2x1.35mm, Pitch 0.65mm, IPC Medium Density)
pins: 1 PG (hiz) "The PG terminal for the fixed voltage option devices is an open drain, active-high output that indicates the status of VO (output of the LDO). When VO exceeds approximately 90% of the regulated voltage, PG goes to a high (See Datasheet)", 2 GND (power) "Ground", 3 NC "No connection", 4 IN (power) "The IN terminal is the power supply input to the device.", 5 OUT (power) "The OUT terminal provides the regulated output voltage of the device."

## TL431DBZ
designator U?
Voltage references 2.5V Low-Iq; Manufacturer: Texas Instruments; Manufacturer P/N: ATL431BIDBZR; ComponentLink1Description: Manufacturer; ComponentLink1URL: *; ComponentLink2Description: Datasheet; ComponentLink2URL: *; Family: Chips; Part: TL431DBZ
footprint AO-SOT23-3_V (SOT23, 3-Leads, Body 3.016x2.8mm, Pitch 0.95mm)
pins: 1 REF (power) "Input supply voltage, 3.5 V to 28 V.", 2 C (power) "Input supply voltage, 3.5 V to 28 V.", 3 A (power) "Input supply voltage, 3.5 V to 28 V."

## TPS54231DRG4
designator U?
2-A, 28-V Input, Step-Down DC-DC Converter With Eco-mode; ComponentLink1Description: *; ComponentLink1URL: *; ComponentLink2Description: Datasheet; ComponentLink2URL: http://www.ti.com/lit/ds/symlink/tps54231.pdf; Family: *; Manufacturer: *; Manufacturer P/N: TPS54231DRG4; Part: TPS54231DRG4
footprint D8_N (SOIC, 8-Leads, Body 4.9x3.9mm, Pitch 1.27mm, IPC Medium Density)
pins: 1 BOOT "A 0.1 uF bootstrap capacitor is required between BOOT and PH. If the voltage on this capacitor falls below the minimum requirement, the high-side MOSFET is forced to switch off until the capacitor is refreshed.", 2 VIN (power) "Input supply voltage, 3.5 V to 28 V.", 3 EN (in) "Enable pin. Pull below 1.25 V to disable. Float to enable. Programming the input undervoltage lockout with two resistors is recommended.", 4 SS (in) "Slow start pin. An external capacitor connected to this pin sets the output rise time.", 5 VSENSE (in) "Inverting node of the gm error amplifier.", 6 COMP "Error amplifier output, and input to the PWM comparator. Connect frequency compensation components to this pin.", 7 GND (power) "Ground.", 8 PH (power) "The source of the internal high-side power MOSFET"

## TPS73115DBVT
designator U?
Capacitor-Free, NMOS, 150 mA low dropout regulator with reverse current protection , Fixed 1.5 V Output, 1.7 to 5.5 V Input, 5-pin SOT-23 (DBV), -40 to 85 degC, Green (RoHS & no Sb/Br); Manufacturer: Texas Instruments; ComponentLink1Description: Manufacturer; ComponentLink1URL: http://www.ti.com; ComponentLink2Description: Datasheet; ComponentLink2URL: http://www.ti.com/lit/ds/symlink/tps736.pdf; Manufacturer P/N: TPS73115DBVT; Part: TPS73115DBVT; Family: Chip
footprint SOT23_MF05A_L (SOT23, 5-Leads, Body 2.9x1.6mm, Pitch 0.95mm, Lead Span 2.8mm, IPC High Density)
footprint SOT23_MF05A_M (SOT23, 5-Leads, Body 2.9x1.6mm, Pitch 0.95mm, Lead Span 2.8mm, IPC Low Density)
footprint SOT23_MF05A_N (SOT23, 5-Leads, Body 2.9x1.6mm, Pitch 0.95mm, Lead Span 2.8mm, IPC Medium Density)
pins: 1 IN (power) "Input supply voltage", 2 GND (power) "Ground", 3 EN (in) "Enable input", 4 NR "No connected", 5 OUT (power) "Regulated output voltage"